# Altium footprint library MFP14S.PcbLib: 1 footprints
Each footprint in its own frame and in the unit in brackets; x right, y up, seen from the top. Pads: shape width x height; smd on the part's side, far side on the other; paste and mask are expansions set on the pad; w line width, h text height; cw(c..) or ccw(c..) is an arc to the next point about the centre after c.
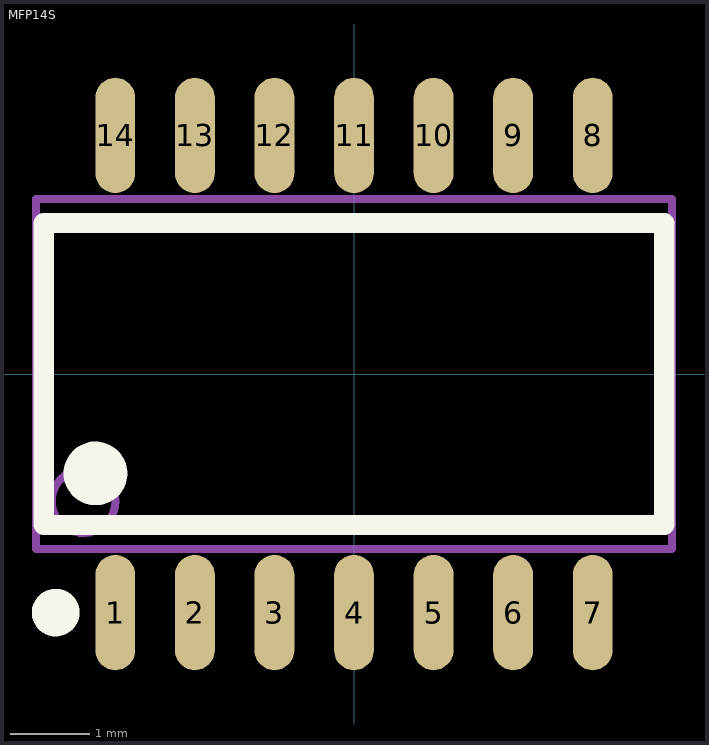
[diagram p0: the footprint, top view; thin cyan lines are the x and y axes]

## MFP14S [mm] "MFP14S(K)"
pads (14):
  oval 0.5x1.45 smd: 1(-3,-3) 2(-2,-3) 3(-1,-3) 4(0,-3) 5(1,-3) 6(2,-3) 7(3,-3) 8(3,3) 9(2,3) 10(1,3) 11(0,3) 12(-1,3) 13(-2,3) 14(-3,3)
Top Overlay:
  circle w0.4: c-3.25,-1.25 r0.2
  circle w0.3: c-3.75,-3 r0.15
  lines w0.254: -3.9,-1.9 -3.9,1.9 3.9,1.9 3.9,-1.9 -3.9,-1.9
Mechanical 13:
  circle w0.1: c-3.4,-1.6 r0.4
  lines w0.1: -4,-2.2 4,-2.2 4,2.2 -4,2.2 -4,-2.2